# Altium footprint library TO-252-3.PcbLib: 1 footprints
Each footprint in its own frame and in the unit in brackets; x right, y up, seen from the top. Pads: shape width x height; smd on the part's side, far side on the other; paste and mask are expansions set on the pad; w line width, h text height; cw(c..) or ccw(c..) is an arc to the next point about the centre after c.
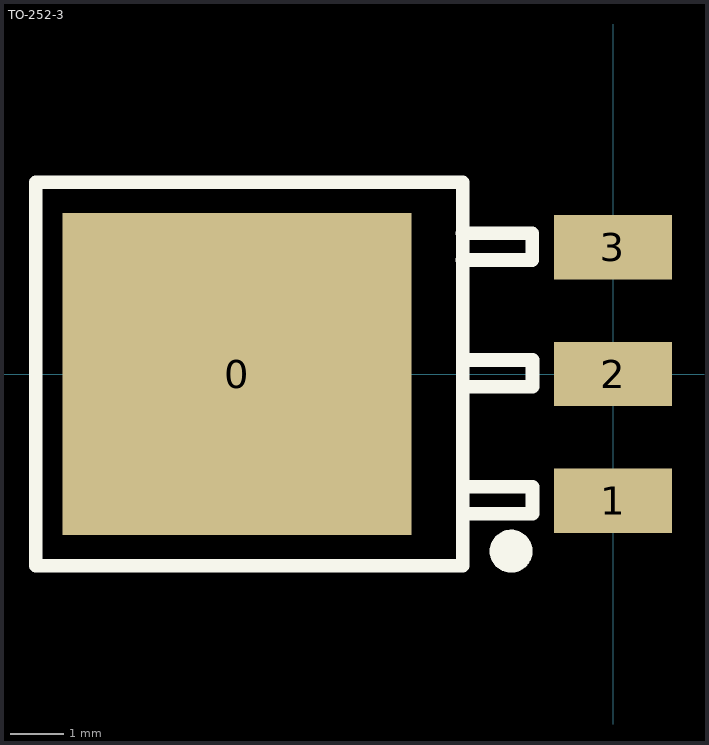
[diagram p0: the footprint, top view; thin cyan lines are the x and y axes]

## TO-252-3 [mm]
pads (4):
  rect 6.5x6 smd: 0(-7,0)
  rect 2.2x1.2 smd: 1(0,-2.361) 2(0,0) 3(-0.004,2.361)
Top Overlay:
  circle w0.4: c-1.9,-3.3 r0.2
  lines w0.254: -2.804,2.123 -1.504,2.123 -1.504,2.623 -2.804,2.623 ; -2.8,-2.6 -1.5,-2.6 -1.5,-2.1 -2.8,-2.1 ; -2.8,-0.239 -1.5,-0.239 -1.5,0.261 -2.8,0.261 ; -10.75,-3.573 -2.8,-3.573 -2.8,3.573 -10.75,3.573 -10.75,-3.573